# Altium footprint library A3PE600_PLUGA.PcbLib: 1 footprints
Each footprint in its own frame and in the unit in brackets; x right, y up, seen from the top. Pads: shape width x height; smd on the part's side, far side on the other; paste and mask are expansions set on the pad; w line width, h text height; cw(c..) or ccw(c..) is an arc to the next point about the centre after c.
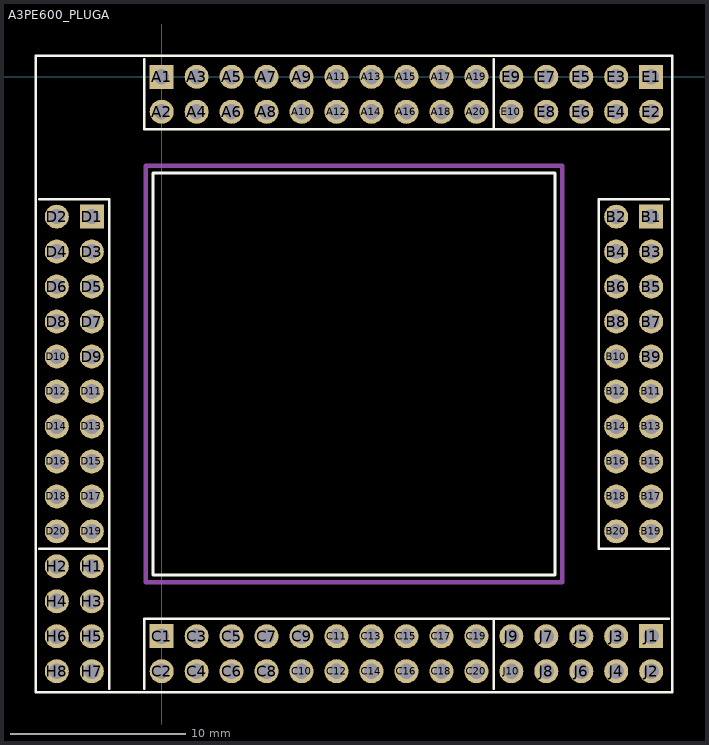
[diagram p0: the footprint, top view; thin cyan lines are the x and y axes]

## A3PE600_PLUGA [mil]
pads (108):
  rect 54x54 hole 34: A1(0,0) B1(1102.36,-314.96) C1(0,-1259.84) D1(-157.48,-314.96) E1(1102.36,0) J1(1102.36,-1259.84)
  round 54 hole 34: A2(0,-78.74) A3(78.74,0) A4(78.74,-78.74) A5(157.48,0) A6(157.48,-78.74) A7(236.22,0) A8(236.22,-78.74) A9(314.96,0) A10(314.96,-78.74) A11(393.7,0) A12(393.7,-78.74) A13(472.44,0) A14(472.44,-78.74) A15(551.18,0) A16(551.18,-78.74) A17(629.92,0) A18(629.92,-78.74) A19(708.66,0) A20(708.66,-78.74) B2(1023.62,-314.96) B3(1102.36,-393.7) B4(1023.62,-393.7) B5(1102.36,-472.44) B6(1023.62,-472.44) B7(1102.36,-551.18) B8(1023.62,-551.18) B9(1102.36,-629.92) B10(1023.62,-629.92) B11(1102.36,-708.66) B12(1023.62,-708.66) B13(1102.36,-787.4) B14(1023.62,-787.4) B15(1102.36,-866.14) B16(1023.62,-866.14) B17(1102.36,-944.88) B18(1023.62,-944.88) B19(1102.36,-1023.62) B20(1023.62,-1023.62) C2(0,-1338.58) C3(78.74,-1259.84) C4(78.74,-1338.58) C5(157.48,-1259.84) C6(157.48,-1338.58) C7(236.22,-1259.84) C8(236.22,-1338.58) C9(314.96,-1259.84) C10(314.96,-1338.58) C11(393.7,-1259.84) C12(393.7,-1338.58) C13(472.44,-1259.84) C14(472.44,-1338.58) C15(551.18,-1259.84) C16(551.18,-1338.58) C17(629.92,-1259.84) C18(629.92,-1338.58) C19(708.66,-1259.84) C20(708.66,-1338.58) D2(-236.22,-314.96) D3(-157.48,-393.7) D4(-236.22,-393.7) D5(-157.48,-472.44) D6(-236.22,-472.44) D7(-157.48,-551.18) D8(-236.22,-551.18) D9(-157.48,-629.92) D10(-236.22,-629.92) D11(-157.48,-708.66) D12(-236.22,-708.66) D13(-157.48,-787.4) D14(-236.22,-787.4) D15(-157.48,-866.14) D16(-236.22,-866.14) D17(-157.48,-944.88) D18(-236.22,-944.88) D19(-157.48,-1023.62) D20(-236.22,-1023.62) E2(1102.36,-78.74) E3(1023.62,0) E4(1023.62,-78.74) E5(944.88,0) E6(944.88,-78.74) E7(866.14,0) E8(866.14,-78.74) E9(787.4,0) E10(787.4,-78.74) H1(-157.48,-1102.36) H2(-236.22,-1102.36) H3(-157.48,-1181.1) H4(-236.22,-1181.1) H5(-157.48,-1259.84) H6(-236.22,-1259.84) H7(-157.48,-1338.58) H8(-236.22,-1338.58) J2(1102.36,-1338.58) J3(1023.62,-1259.84) J4(1023.62,-1338.58) J5(944.88,-1259.84) J6(944.88,-1338.58) J7(866.14,-1259.84) J8(866.14,-1338.58) J9(787.4,-1259.84) J10(787.4,-1338.58)
TopOverlay:
  lines w6: -275.59,-1062.99 -118.11,-1062.99 ; -275.59,-275.59 -118.11,-275.59 -118.11,-1377.95 ; -39.37,-1377.95 -39.37,-1220.47 748.03,-1220.47 ; -39.37,39.37 -39.37,-118.11 748.03,-118.11 ; 1141.73,-1220.47 748.03,-1220.47 ; 1141.73,-1062.99 984.25,-1062.99 984.25,-275.59 1141.73,-275.59 ; 1141.73,-118.11 748.03,-118.11 ; 748.03,-1220.47 748.03,-1377.95 748.03,-1220.47 ; 748.03,-118.11 748.03,39.37 748.03,-118.11 ; -283.46,-1385.83 -283.46,47.24 1149.6,47.24 1149.6,-1385.83 -283.46,-1385.83 ; -19.68,-1122.05 885.83,-1122.05 885.83,-216.53 -19.68,-216.53 -19.68,-1122.05
Mechanical1:
  lines w10: -36,-1138 902,-1138 902,-200 -36,-200 -36,-1138